# Altium schematic symbol library Power_Protection.SchLib: 144 symbols (part 1 of 2)
Pins are listed as number, name and electrical type; pins without a type are passive.

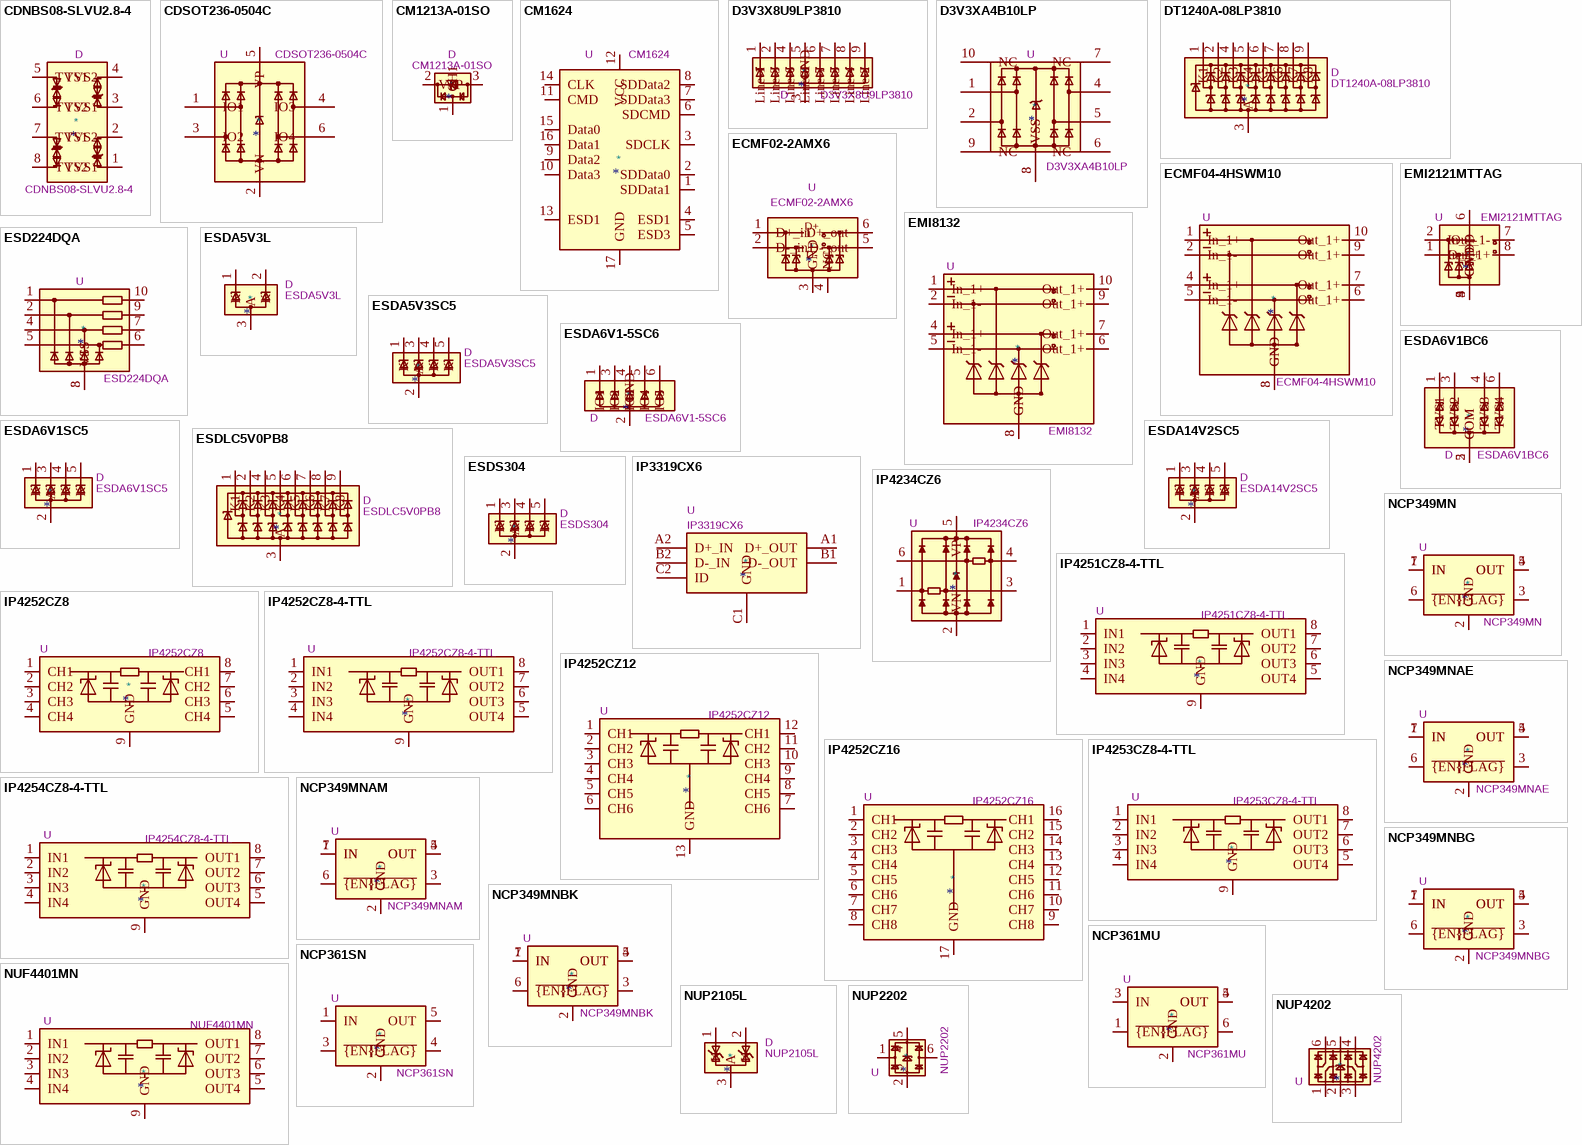
[diagram p0: symbols CDNBS08-SLVU2.8-4 to NUP4202]

## CDNBS08-SLVU2.8-4
designator *  value CDNBS08-SLVU2.8-4  Reference: D
Quad bidirectional transil, Suppressor for ESD protection, 5V Standoff, 4 Channels, SOIC-8; ki_keywords: ESD protection suppression transient; ki_fp_filters: SOIC*3.9x4.9mm*P1.27mm*; Footprint: Package_SO:SOIC-8_3.9x4.9mm_P1.27mm; Datasheet: https://www.bourns.com/pdfs/CDNBS08-SLVU28-4.pdf; Description_: Quad bidirectional transil, Suppressor for ESD protection, 5V Standoff, 4 Channels, SOIC-8
pins: 1 TVS1, 2 TVS2, 3 TVS1, 4 TVS2, 5 TVS1, 6 TVS2, 7 TVS1, 8 TVS2

## CDSOT236-0504C
designator *  value CDSOT236-0504C  Reference: U
Low capacitance ESD diode / steering Diode Array, SOT23-6; ki_keywords: ESD protection diodes; ki_fp_filters: SOT?23*; Footprint: Package_TO_SOT_SMD:SOT-23-6; Datasheet: https://www.bourns.com/docs/product-datasheets/cdsot236-0504c.pdf; Description_: Low capacitance ESD diode / steering Diode Array, SOT23-6
pins: 1 IO1, 2 VN, 3 IO2, 4 IO3, 5 VP, 6 IO4

## CM1213A-01SO
designator *  value CM1213A-01SO  Reference: D
Single Channel ESD Protection Array; ki_keywords: ESD Protection diodes transient suppressor; ki_fp_filters: SOT?23*; Footprint: Package_TO_SOT_SMD:SOT-23; Datasheet: http://www.onsemi.com/pub_link/Collateral/CM1213A-D.PDF; Description_: Single Channel ESD Protection Array
pins: 1 CH1, 2 VP, 3 VN

## CM1624
designator *  value CM1624  Reference: U
MMC interface, EMI filter, TVS, Line termination, UDFN-16; ki_keywords: microsd protection; ki_fp_filters: OnSemi*UDFN*1EP*1.35x3.3mm*P0.4mm*; Footprint: Package_DFN_QFN:OnSemi_UDFN-16-1EP_1.35x3.3mm_P0.4mm_EP0.4x2.8mm; Datasheet: https://www.onsemi.com/pdf/datasheet/cm1624-d.pdf; Description_: MMC interface, EMI filter, TVS, Line termination, UDFN-16
pins: 1 SDData1, 2 SDData0, 3 SDCLK, 4 ESD1, 5 ESD3, 6 SDCMD, 7 SDData3, 8 SDData2, 9 Data2, 10 Data3, 11 CMD, 12 VCC, 13 ESD1, 14 CLK, 15 Data0, 16 Data1, 17 GND

## D3V3X8U9LP3810
designator *  value D3V3X8U9LP3810  Reference: D
3V3 Reverse Working, 8 channel low capacitance 0.45pF, TVS diode array, 5.5-7V Breakdown, U-DFN3810-9; ki_keywords: ESD protection suppression transient; ki_fp_filters: Diodes?UDFN3810?9?TYPE_B*; Footprint: Package_DFN_QFN:Diodes_UDFN3810-9_TYPE_B; Datasheet: https://www.diodes.com/assets/Datasheets/D3V3X8U9LP3810.pdf; Description_: 3V3 Reverse Working, 8 channel low capacitance 0.45pF, TVS diode array, 5.5-7V Breakdown, U-DFN3810-9
pins: 1 Line-1, 2 Line-3, 3 GND, 4 Line-6, 5 Line-8, 6 Line-7, 7 Line-5, 8 Line-4, 9 Line-2

## D3V3XA4B10LP
designator *  value D3V3XA4B10LP  Reference: U
4-Channel Low Capacitance TVS Diode Array, DFN-10; ki_keywords: ESD protection TVS; ki_fp_filters: Diodes*UDFN*1.0x2.5mm*P0.5mm*; Footprint: Package_DFN_QFN:Diodes_UDFN-10_1.0x2.5mm_P0.5mm; Datasheet: https://www.diodes.com/assets/Datasheets/D3V3XA4B10LP.pdf; Description_: 4-Channel Low Capacitance TVS Diode Array, DFN-10
pins: 1, 2, 3 VSS, 4, 5, 6 NC, 7 NC, 8 VSS, 9 NC, 10 NC

## DT1240A-08LP3810
designator *  value DT1240A-08LP3810  Reference: D
Low Capacitance TVS Diode Array, 3.3V Standoff, 8 Channels, UDFN-9; ki_keywords: usb esd protection suppression transient; ki_fp_filters: UDFN*1.0x3.8mm*P0.5mm*; Footprint: Package_DFN_QFN:UDFN-9_1.0x3.8mm_P0.5mm; Datasheet: https://www.diodes.com/assets/Datasheets/DT1240A-08LP3810.pdf; Description_: Low Capacitance TVS Diode Array, 3.3V Standoff, 8 Channels, UDFN-9
pins: 1 K1, 2 K2, 3 A, 4 K3, 5 K4, 6 K5, 7 K6, 8 K7, 9 K8

## ECMF02-2AMX6
designator *  value ECMF02-2AMX6  Reference: U
Single Pair Common Mode Filter with ESD Protection, UQFN-6L; ki_keywords: Common Mode ESD; ki_fp_filters: ST?UQFN*L?1.5x1.7mm*P0.5mm*; Footprint: Package_DFN_QFN:ST_UQFN-6L_1.5x1.7mm_P0.5mm; Datasheet: https://www.st.com/resource/en/datasheet/ecmf02-2amx6.pdf; Description_: Single Pair Common Mode Filter with ESD Protection, UQFN-6L
pins: 1 D+_in, 2 D-_in, 3 GND, 4 NC, 5 D-_out, 6 D+_out
text: D+; D-

## ECMF04-4HSWM10
designator *  value ECMF04-4HSWM10  Reference: U
Dual Pair Common Mode Filter with 8KV/16KV ESD Protection, 3V working voltage, STMicroelectronics, UDFN-10; ki_keywords: Common Mode ESD; ki_fp_filters: *UDFN*1.35x2.6mm*P0.5mm*; Footprint: Package_DFN_QFN:UDFN-10_1.35x2.6mm_P0.5mm; Datasheet: https://www.st.com/content/ccc/resource/technical/document/datasheet/fa/13/38/f2/70/5b/46/46/DM00109760.pdf/files/DM00109760.pdf/jcr:content/translations/en.DM00109760.pdf; Description_: Dual Pair Common Mode Filter with 8KV/16KV ESD Protection, 3V working voltage, STMicroelectronics, UDFN-10
pins: 1 In_1+, 2 In_1-, 3 GND, 4 In_1+, 5 In_1-, 6 Out_1+, 7 Out_1+, 8 GND, 9 Out_1+, 10 Out_1+

## EMI2121MTTAG
designator *  value EMI2121MTTAG  Reference: U
Single Pair Common Mode Filter with ESD Protection, WDFN-8; ki_keywords: Common Mode ESD; ki_fp_filters: WDFN*1EP*2x2.2mm*P0.5mm*; Footprint: Package_DFN_QFN:WDFN-8-1EP_2x2.2mm_P0.5mm_EP0.80x0.54; Datasheet: https://www.onsemi.com/pub/Collateral/EMI2121MT-D.PDF; Description_: Single Pair Common Mode Filter with ESD Protection, WDFN-8
pins: 1 In_1+, 2 In_1-, 3 GND, 4 GND, 5 GND, 6 VDD, 7 Out_1-, 8 Out_1+, 9 GND

## EMI8132
designator *  value EMI8132  Reference: U
On Semi, Dual Pair Common Mode Filter with ESD Protection, 3.3V working voltage, XDFN-10; ki_keywords: Common Mode ESD; ki_fp_filters: *XDFN*1.35x2.2mm*P0.4mm*; Footprint: Package_DFN_QFN:OnSemi_XDFN-10_1.35x2.2mm_P0.4mm; Datasheet: https://www.onsemi.com/pdf/datasheet/emi8132-d.pdf; Description_: On Semi, Dual Pair Common Mode Filter with ESD Protection, 3.3V working voltage, XDFN-10
pins: 1 In_1+, 2 In_1-, 3 GND, 4 In_1+, 5 In_1-, 6 Out_1+, 7 Out_1+, 8 GND, 9 Out_1+, 10 Out_1+

## ESD224DQA
designator *  value ESD224DQA  Reference: U
4-Channel Low Capacitance TVS Diode Array, USON-10; ki_keywords: ESD protection TVS; ki_fp_filters: Diodes*UDFN*1.0x2.5mm*P0.5mm*; Footprint: Package_DFN_QFN:Diodes_UDFN-10_1.0x2.5mm_P0.5mm; Datasheet: https://www.ti.com/lit/ds/symlink/esd224.pdf; Description_: 4-Channel Low Capacitance TVS Diode Array, USON-10
pins: 1, 2, 3 VSS, 4, 5, 6, 7, 8 VSS, 9, 10

## ESDA5V3L
designator *  value ESDA5V3L  Reference: D
TVS Diode Array, 5.5V Standoff, 2 Channels, SOT23; ki_keywords: usb esd protection suppression transient; ki_fp_filters: SOT?23*; Footprint: Package_TO_SOT_SMD:SOT-23-3; Datasheet: https://www.st.com/resource/en/datasheet/esdal.pdf; Description_: TVS Diode Array, 5.5V Standoff, 2 Channels, SOT23
pins: 1 K, 2 K, 3 A

## ESDA5V3SC5
designator *  value ESDA5V3SC5  Reference: D
Quad TVS Diode Array, 5.3V Standoff, 4 Channels, 400W, ±30kV, SOT-23-5; ki_keywords: usb esd protection suppression transient; ki_fp_filters: SOT?23*; Footprint: Package_TO_SOT_SMD:SOT-23-5; Datasheet: https://www.st.com/resource/en/datasheet/esda5v3sc6.pdf; Description_: Quad TVS Diode Array, 5.3V Standoff, 4 Channels, 400W, ±30kV, SOT-23-5
pins: 1 K, 2 A, 3 K, 4 K, 5 K

## ESDA6V1-5SC6
designator *  value ESDA6V1-5SC6  Reference: D
Quintuple bidirectional transil, Suppressor for ESD protection, 6V1 Breakdown, SOT-23-6; ki_keywords: ESD protection suppression transient; ki_fp_filters: SOT?23*; Footprint: Package_TO_SOT_SMD:SOT-23-6; Datasheet: www.st.com/resource/en/datasheet/esda6v1-5sc6.pdf; Description_: Quintuple bidirectional transil, Suppressor for ESD protection, 6V1 Breakdown, SOT-23-6
pins: 1 IO1, 2 GND, 3 IO2, 4 IO3, 5 IO4, 6 IO5

## ESDA6V1BC6
designator *  value ESDA6V1BC6  Reference: D
Quad bidirectional transil, Suppressor for ESD protection, 5V Standoff, 4 Channels, SOT-23-6; ki_keywords: ESD protection suppression transient; ki_fp_filters: SOT?23*; Footprint: Package_TO_SOT_SMD:SOT-23-6; Datasheet: http://www.st.com/content/ccc/resource/technical/document/datasheet/21/07/21/e3/a8/df/42/a2/CD00001906.pdf/files/CD00001906.pdf/jcr:content/translations/en.CD00001906.pdf; Description_: Quad bidirectional transil, Suppressor for ESD protection, 5V Standoff, 4 Channels, SOT-23-6
pins: 1 TVS1, 2 COM, 3 TVS2, 4 TVS3, 5 COM, 6 TVS4

## ESDA6V1SC5
designator *  value ESDA6V1SC5  Reference: D
Quad TVS Diode Array, 6.1V Standoff, 4 Channels, 400W, ±30kV, SOT-23-5; ki_keywords: usb esd protection suppression transient; ki_fp_filters: SOT?23*; Footprint: Package_TO_SOT_SMD:SOT-23-5; Datasheet: https://www.st.com/resource/en/datasheet/esda5v3sc6.pdf; Description_: Quad TVS Diode Array, 6.1V Standoff, 4 Channels, 400W, ±30kV, SOT-23-5
pins: 1 K, 2 A, 3 K, 4 K, 5 K

## ESDA14V2SC5
designator *  value ESDA14V2SC5  Reference: D
Quad TVS Diode Array, 14.2V Standoff, 4 Channels, 400W, ±30kV, SOT-23-5; ki_keywords: esd protection suppression transient; ki_fp_filters: SOT?23*; Footprint: Package_TO_SOT_SMD:SOT-23-5; Datasheet: https://www.st.com/resource/en/datasheet/esda5v3sc6.pdf; Description_: Quad TVS Diode Array, 14.2V Standoff, 4 Channels, 400W, ±30kV, SOT-23-5
pins: 1 K, 2 A, 3 K, 4 K, 5 K

## ESDLC5V0PB8
designator *  value ESDLC5V0PB8  Reference: D
TVS Diode Array, 5.0V Standoff, 8 Channels, UDFN-9; ki_keywords: usb esd protection suppression transient; ki_fp_filters: UDFN*1.0x3.8mm*P0.5mm*; Footprint: Package_DFN_QFN:UDFN-9_1.0x3.8mm_P0.5mm; Datasheet: https://www.mccsemi.com/pdf/Products/ESDLC5V0PB8(DFN3810-9)-A.pdf; Description_: TVS Diode Array, 5.0V Standoff, 8 Channels, UDFN-9
pins: 1 K1, 2 K2, 3 A, 4 K3, 5 K4, 6 K5, 7 K6, 8 K7, 9 K8

## ESDS304
designator *  value ESDS304  Reference: D
4-channel 1Gbps TVS Diode Array, 2.3pF, 4.5V breakdown, 30kV contact & air gap, SOT-23-5; ki_keywords: usb ethernet esd protection suppression transient transient-voltage low-capacitance texas; ki_fp_filters: SOT?23*; Footprint: Package_TO_SOT_SMD:SOT-23-5; Datasheet: https://www.ti.com/lit/ds/symlink/esds304.pdf; Description_: 4-channel 1Gbps TVS Diode Array, 2.3pF, 4.5V breakdown, 30kV contact & air gap, SOT-23-5
pins: 1 K, 2 A, 3 K, 4 K, 5 K

## IP3319CX6
designator *  value IP3319CX6  Reference: U
Single channel common mode filter with integrated ESD protection network; ki_keywords: common mode filter ESD protection; ki_fp_filters: WLCSP*1.4x1.0mm*P0.4mm*; Footprint: Package_CSP:WLCSP-6_1.4x1.0mm_P0.4mm; Datasheet: https://assets.nexperia.com/documents/data-sheet/IP3319CX6.pdf; Description_: Single channel common mode filter with integrated ESD protection network
pins: A1 D+_OUT, A2 D+_IN, B1 D-_OUT, B2 D-_IN, C1 GND, C2 ID

## IP4234CZ6
designator *  value IP4234CZ6  Reference: U
ESD Protection, 2 channel, USB 2.0 to IEC 61000-4-2 level 4, 5.5V, SOT457 (SC-74-6); ki_keywords: USB ESD protection; ki_fp_filters: SC?74?6*P0.95mm*; Footprint: Package_TO_SOT_SMD:SC-74-6_1.55x2.9mm_P0.95mm; Datasheet: https://assets.nexperia.com/documents/data-sheet/IP4234CZ6.pdf; Description_: ESD Protection, 2 channel, USB 2.0 to IEC 61000-4-2 level 4, 5.5V, SOT457 (SC-74-6)
pins: 1, 2 VN, 3, 4, 5 VP, 6

## IP4251CZ8-4-TTL
designator *  value IP4251CZ8-4-TTL  Reference: U
4 channel EMI filters with integrated ESD protection, 100ohm series resistance, 5pF on each side, DFN-8; ki_keywords: EMI ESD protection; ki_fp_filters: *HUSON*1EP*1.35x1.7mm*P0.4mm*; Footprint: Package_SON:Nexperia_HUSON-8_USON-8-1EP_1.35x1.7mm_P0.4mm_EP0.4x1.2mm; Datasheet: https://assets.nexperia.com/documents/data-sheet/IP4251_52_53_54-TTL.pdf; Description_: 4 channel EMI filters with integrated ESD protection, 100ohm series resistance, 5pF on each side, DFN-8
pins: 1 IN1, 2 IN2, 3 IN3, 4 IN4, 5 OUT4, 6 OUT3, 7 OUT2, 8 OUT1, 9 GND

## IP4252CZ8
designator *  value IP4252CZ8  Reference: U
4 channel EMI filters with integrated ESD protection, 12 pF, 40 Ohm; ki_keywords: EMI ESD protection; ki_fp_filters: *HUSON*1.35x1.7*EP0.4x1.2*; Footprint: Package_SON:Nexperia_HUSON-8_USON-8-1EP_1.35x1.7mm_P0.4mm_EP0.4x1.2mm; Datasheet: https://assets.nexperia.com/documents/data-sheet/IP4251_52_53_54-TTL.pdf; Description_: 4 channel EMI filters with integrated ESD protection, 12 pF, 40 Ohm
pins: 1 CH1, 2 CH2, 3 CH3, 4 CH4, 5 CH4, 6 CH3, 7 CH2, 8 CH1, 9 GND

## IP4252CZ8-4-TTL
designator *  value IP4252CZ8-4-TTL  Reference: U
4 channel EMI filters with integrated ESD protection, 40ohm series resistance, 6pF on each side, DFN-8; ki_keywords: EMI ESD protection; ki_fp_filters: *HUSON*1EP*1.35x1.7mm*P0.4mm*; Footprint: Package_SON:Nexperia_HUSON-8_USON-8-1EP_1.35x1.7mm_P0.4mm_EP0.4x1.2mm; Datasheet: https://assets.nexperia.com/documents/data-sheet/IP4251_52_53_54-TTL.pdf; Description_: 4 channel EMI filters with integrated ESD protection, 40ohm series resistance, 6pF on each side, DFN-8
pins: 1 IN1, 2 IN2, 3 IN3, 4 IN4, 5 OUT4, 6 OUT3, 7 OUT2, 8 OUT1, 9 GND

## IP4252CZ12
designator *  value IP4252CZ12  Reference: U
6 channel EMI filters with integrated ESD protection, 12 pF, 40 Ohm; ki_keywords: EMI ESD protection; ki_fp_filters: *HUSON*1.35x2.5*EP0.4x2*; Footprint: Package_SON:Nexperia_HUSON-12_USON-12-1EP_1.35x2.5mm_P0.4mm_EP0.4x2mm; Datasheet: https://assets.nexperia.com/documents/data-sheet/IP4251_52_53_54-TTL.pdf; Description_: 6 channel EMI filters with integrated ESD protection, 12 pF, 40 Ohm
pins: 1 CH1, 2 CH2, 3 CH3, 4 CH4, 5 CH5, 6 CH6, 7 CH6, 8 CH5, 9 CH4, 10 CH3, 11 CH2, 12 CH1, 13 GND

## IP4252CZ16
designator *  value IP4252CZ16  Reference: U
8 channel EMI filters with integrated ESD protection,  12 pF, 40 Ohm; ki_keywords: EMI ESD protection; ki_fp_filters: *HUSON*1.35x3.3*EP0.4x2.8*; Footprint: Package_SON:Nexperia_HUSON-16_USON-16-1EP_1.35x3.3mm_P0.4mm_EP0.4x2.8mm; Datasheet: https://assets.nexperia.com/documents/data-sheet/IP4251_52_53_54-TTL.pdf; Description_: 8 channel EMI filters with integrated ESD protection,  12 pF, 40 Ohm
pins: 1 CH1, 2 CH2, 3 CH3, 4 CH4, 5 CH5, 6 CH6, 7 CH7, 8 CH8, 9 CH8, 10 CH7, 11 CH6, 12 CH5, 13 CH4, 14 CH3, 15 CH2, 16 CH1, 17 GND

## IP4253CZ8-4-TTL
designator *  value IP4253CZ8-4-TTL  Reference: U
4 channel EMI filters with integrated ESD protection, 200ohm series resistance, 15pF on each side, DFN-8; ki_keywords: EMI ESD protection; ki_fp_filters: *HUSON*1EP*1.35x1.7mm*P0.4mm*; Footprint: Package_SON:Nexperia_HUSON-8_USON-8-1EP_1.35x1.7mm_P0.4mm_EP0.4x1.2mm; Datasheet: https://assets.nexperia.com/documents/data-sheet/IP4251_52_53_54-TTL.pdf; Description_: 4 channel EMI filters with integrated ESD protection, 200ohm series resistance, 15pF on each side, DFN-8
pins: 1 IN1, 2 IN2, 3 IN3, 4 IN4, 5 OUT4, 6 OUT3, 7 OUT2, 8 OUT1, 9 GND

## IP4254CZ8-4-TTL
designator *  value IP4254CZ8-4-TTL  Reference: U
4 channel EMI filters with integrated ESD protection, 100ohm series resistance, 15pF on each side, DFN-8; ki_keywords: EMI ESD protection; ki_fp_filters: *HUSON*1EP*1.35x1.7mm*P0.4mm*; Footprint: Package_SON:Nexperia_HUSON-8_USON-8-1EP_1.35x1.7mm_P0.4mm_EP0.4x1.2mm; Datasheet: https://assets.nexperia.com/documents/data-sheet/IP4251_52_53_54-TTL.pdf; Description_: 4 channel EMI filters with integrated ESD protection, 100ohm series resistance, 15pF on each side, DFN-8
pins: 1 IN1, 2 IN2, 3 IN3, 4 IN4, 5 OUT4, 6 OUT3, 7 OUT2, 8 OUT1, 9 GND

## NCP349MN
designator *  value NCP349MN  Reference: U
28V Positive Overvoltage Protection Controller, DFN-6; ki_fp_filters: DFN*1EP*2x1.6mm*P0.5mm*; Footprint: Package_DFN_QFN:DFN-6-1EP_2x1.6mm_P0.5mm_EP1.15x1.3mm; Datasheet: https://www.onsemi.com/pdf/datasheet/ncp349-d.pdf; Description_: 28V Positive Overvoltage Protection Controller, DFN-6; ki_keywords: overvoltage protection
pins: 1 IN, 2 GND, 3 ~{{FLAG}}, 4 OUT, 5 OUT, 6 ~{{EN}}, 7 IN

## NCP349MNAE
designator *  value NCP349MNAE  Reference: U
28V Positive Overvoltage Protection Controller, DFN-6; ki_fp_filters: DFN*1EP*2x1.6mm*P0.5mm*; Footprint: Package_DFN_QFN:DFN-6-1EP_2x1.6mm_P0.5mm_EP1.15x1.3mm; Datasheet: https://www.onsemi.com/pdf/datasheet/ncp349-d.pdf; Description_: 28V Positive Overvoltage Protection Controller, DFN-6; ki_keywords: overvoltage protection
pins: 1 IN, 2 GND, 3 ~{{FLAG}}, 4 OUT, 5 OUT, 6 ~{{EN}}, 7 IN

## NCP349MNAM
designator *  value NCP349MNAM  Reference: U
28V Positive Overvoltage Protection Controller, DFN-6; ki_fp_filters: DFN*1EP*2x1.6mm*P0.5mm*; Footprint: Package_DFN_QFN:DFN-6-1EP_2x1.6mm_P0.5mm_EP1.15x1.3mm; Datasheet: https://www.onsemi.com/pdf/datasheet/ncp349-d.pdf; Description_: 28V Positive Overvoltage Protection Controller, DFN-6; ki_keywords: overvoltage protection
pins: 1 IN, 2 GND, 3 ~{{FLAG}}, 4 OUT, 5 OUT, 6 ~{{EN}}, 7 IN

## NCP349MNBG
designator *  value NCP349MNBG  Reference: U
28V Positive Overvoltage Protection Controller, DFN-6; ki_fp_filters: DFN*1EP*2x1.6mm*P0.5mm*; Footprint: Package_DFN_QFN:DFN-6-1EP_2x1.6mm_P0.5mm_EP1.15x1.3mm; Datasheet: https://www.onsemi.com/pdf/datasheet/ncp349-d.pdf; Description_: 28V Positive Overvoltage Protection Controller, DFN-6; ki_keywords: overvoltage protection
pins: 1 IN, 2 GND, 3 ~{{FLAG}}, 4 OUT, 5 OUT, 6 ~{{EN}}, 7 IN

## NCP349MNBK
designator *  value NCP349MNBK  Reference: U
28V Positive Overvoltage Protection Controller, DFN-6; ki_fp_filters: DFN*1EP*2x1.6mm*P0.5mm*; Footprint: Package_DFN_QFN:DFN-6-1EP_2x1.6mm_P0.5mm_EP1.15x1.3mm; Datasheet: https://www.onsemi.com/pdf/datasheet/ncp349-d.pdf; Description_: 28V Positive Overvoltage Protection Controller, DFN-6; ki_keywords: overvoltage protection
pins: 1 IN, 2 GND, 3 ~{{FLAG}}, 4 OUT, 5 OUT, 6 ~{{EN}}, 7 IN

## NCP361MU
designator *  value NCP361MU  Reference: U
USB Positive Overvoltage Protection Controller with Internal PMOS FET and Overcurrent Protection, DFN-6; ki_keywords: overvoltage protection USB; ki_fp_filters: DFN*1EP*2x2mm*P0.65mm*; Footprint: Package_DFN_QFN:DFN-6-1EP_2x2mm_P0.65mm_EP1x1.6mm; Datasheet: https://www.onsemi.com/pdf/datasheet/ncp361-d.pdf; Description_: USB Positive Overvoltage Protection Controller with Internal PMOS FET and Overcurrent Protection, DFN-6
pins: 1 ~{{EN}}, 2 GND, 3 IN, 4 OUT, 5 OUT, 6 ~{{FLAG}}

## NCP361SN
designator *  value NCP361SN  Reference: U
USB Positive Overvoltage Protection Controller with Internal PMOS FET and Overcurrent Protection, TSOP-5; ki_keywords: overvoltage protection USB; ki_fp_filters: TSOP*1.65x3.05*P0.95*; Footprint: Package_SO:TSOP-5_1.65x3.05mm_P0.95mm; Datasheet: https://www.onsemi.com/pdf/datasheet/ncp361-d.pdf; Description_: USB Positive Overvoltage Protection Controller with Internal PMOS FET and Overcurrent Protection, TSOP-5
pins: 1 IN, 2 GND, 3 ~{{EN}}, 4 ~{{FLAG}}, 5 OUT

## NUF4401MN
designator *  value NUF4401MN  Reference: U
4 channel EMI filters with integrated ESD protection, DFN-8; ki_keywords: EMI ESD protection; ki_fp_filters: DFN*1EP*2x2mm*P0.5mm*; Footprint: Package_DFN_QFN:DFN-8-1EP_2x2mm_P0.5mm_EP0.6x1.2mm; Datasheet: https://www.onsemi.com/pub/Collateral/NUF4401MN-D.PDF; Description_: 4 channel EMI filters with integrated ESD protection, DFN-8
pins: 1 IN1, 2 IN2, 3 IN3, 4 IN4, 5 OUT4, 6 OUT3, 7 OUT2, 8 OUT1, 9 GND

## NUP2105L
designator *  value NUP2105L  Reference: D
Dual Line CAN Bus Protector, 24Vrwm; ki_keywords: can esd protection suppression transient; ki_fp_filters: SOT?23*; Footprint: Package_TO_SOT_SMD:SOT-23; Datasheet: https://www.onsemi.com/pub_link/Collateral/NUP2105L-D.PDF; Description_: Dual Line CAN Bus Protector, 24Vrwm
pins: 1 K, 2 K, 3 A

## NUP2202
designator *  value NUP2202  Reference: U
Transient voltage suppressor designed to protect high speed data lines from ESD, EFT, and lightning; ki_keywords: ESD Protection diodes  transient suppressor; ki_fp_filters: SOT?363*; Footprint: Package_TO_SOT_SMD:SOT-363_SC-70-6; Datasheet: https://www.onsemi.com/pdf/datasheet/nup2202w1-d.pdf; Description_: Transient voltage suppressor designed to protect high speed data lines from ESD, EFT, and lightning
pins: 1, 2, 3, 4, 5, 6

## NUP4202
designator *  value NUP4202  Reference: U
Transient voltage suppressor designed to protect high speed data lines from ESD, EFT, and lightning; ki_keywords: ESD Protection diodes  transient suppressor; ki_fp_filters: SOT?363*; Footprint: Package_TO_SOT_SMD:SOT-363_SC-70-6; Datasheet: http://www.onsemi.com/pub_link/Collateral/NUP4202W1-D.PDF; Description_: Transient voltage suppressor designed to protect high speed data lines from ESD, EFT, and lightning
pins: 1, 2, 3, 4, 5, 6

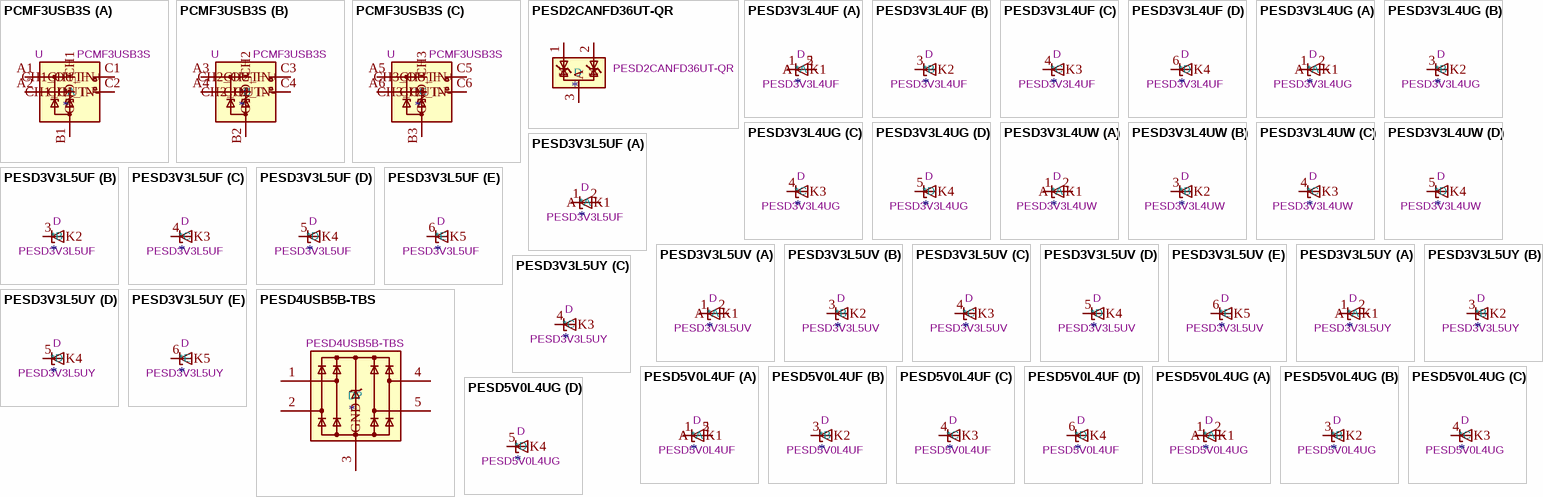
[diagram p1: symbols PCMF3USB3S to PESD5V0L4UG]

## PCMF3USB3S
designator *  value PCMF3USB3S  Reference: U
Common-mode EMI filter for differential channels with integrated ESD protection; ki_keywords: Common Mode ESD; ki_fp_filters: Nexperia*WLCSP*2.37x1.17mm*Layout6x3*P0.4mmP0.8mm*; Footprint: Package_CSP:Nexperia_WLCSP-15_2.37x1.17mm_Layout6x3_P0.4mmP0.8mm; Datasheet: https://assets.nexperia.com/documents/data-sheet/PCMFXUSB3S_SER.pdf; Description_: Common-mode EMI filter for differential channels with integrated ESD protection
part A pins: A1 CH1_IN+, A2 CH1_IN-, B1 GND_CH1, C1 CH1_OUT+, C2 CH1_OUT-
part B pins: A3 CH2_IN+, A4 CH2_IN-, B2 GND_CH2, C3 CH2_OUT+, C4 CH2_OUT-
part C pins: A5 CH3_IN+, A6 CH3_IN-, B3 GND_CH3, C5 CH3_OUT+, C6 CH3_OUT-

## PESD2CANFD36UT-QR
designator D  value PESD2CANFD36UT-QR
ESD protection for in-vehicle networks; ki_keywords: can esd protection suppression transient; ki_fp_filters: SOT?23*; Reference: D; Footprint: Package_TO_SOT_SMD:SOT-23; Datasheet: https://www.onsemi.com/pub_link/Collateral/NUP2105L-D.PDF; Description_: ESD protection for in-vehicle networks
pins: 1 K, 2 K, 3 A

## PESD3V3L4UF
designator *  value PESD3V3L4UF  Reference: D
Low capacitance unidirectional quadruple ESD protection diode array, 3.3V, Common Anode, SOT-886; ki_fp_filters: SOT?886*; Footprint: Package_TO_SOT_SMD:SOT-886; Datasheet: https://assets.nexperia.com/documents/data-sheet/PESDXL4UF_G_W.pdf; Description_: Low capacitance unidirectional quadruple ESD protection diode array, 3.3V, Common Anode, SOT-886; ki_keywords: diode
part A pins: 1 K1, 2 A, 5 A
part B pins: 3 K2
part C pins: 4 K3
part D pins: 6 K4

## PESD3V3L4UG
designator *  value PESD3V3L4UG  Reference: D
Low capacitance unidirectional quadruple ESD protection diode array, 3.3V, Common Anode, SOT-353; ki_fp_filters: SOT?353*; Footprint: Package_TO_SOT_SMD:SOT-353_SC-70-5; Datasheet: https://assets.nexperia.com/documents/data-sheet/PESDXL4UF_G_W.pdf; Description_: Low capacitance unidirectional quadruple ESD protection diode array, 3.3V, Common Anode, SOT-353; ki_keywords: diode
part A pins: 1 K1, 2 A
part B pins: 3 K2
part C pins: 4 K3
part D pins: 5 K4

## PESD3V3L4UW
designator *  value PESD3V3L4UW  Reference: D
Low capacitance unidirectional quadruple ESD protection diode array, 3.3V, Common Anode, SOT-665; ki_fp_filters: SOT?665*; Footprint: Package_TO_SOT_SMD:SOT-665; Datasheet: https://assets.nexperia.com/documents/data-sheet/PESDXL4UF_G_W.pdf; Description_: Low capacitance unidirectional quadruple ESD protection diode array, 3.3V, Common Anode, SOT-665; ki_keywords: diode
part A pins: 1 K1, 2 A
part B pins: 3 K2
part C pins: 4 K3
part D pins: 5 K4

## PESD3V3L5UF
designator *  value PESD3V3L5UF  Reference: D
Low capacitance unidirectional fivefold ESD protection diode array, 3.3V, Common Anode, SOT-886; ki_fp_filters: SOT?886*; Footprint: Package_TO_SOT_SMD:SOT-886; Datasheet: https://assets.nexperia.com/documents/data-sheet/PESDXL5UF_V_Y.pdf; Description_: Low capacitance unidirectional fivefold ESD protection diode array, 3.3V, Common Anode, SOT-886; ki_keywords: diode
part A pins: 1 K1, 2 A
part B pins: 3 K2
part C pins: 4 K3
part D pins: 5 K4
part E pins: 6 K5

## PESD3V3L5UV
designator *  value PESD3V3L5UV  Reference: D
Low capacitance unidirectional fivefold ESD protection diode array, 3.3V, Common Anode, SOT-666; ki_fp_filters: SOT?666*; Footprint: Package_TO_SOT_SMD:SOT-666; Datasheet: https://assets.nexperia.com/documents/data-sheet/PESDXL5UF_V_Y.pdf; Description_: Low capacitance unidirectional fivefold ESD protection diode array, 3.3V, Common Anode, SOT-666; ki_keywords: diode
part A pins: 1 K1, 2 A
part B pins: 3 K2
part C pins: 4 K3
part D pins: 5 K4
part E pins: 6 K5

## PESD3V3L5UY
designator *  value PESD3V3L5UY  Reference: D
Low capacitance unidirectional fivefold ESD protection diode array, 3.3V, Common Anode, SOT-363; ki_fp_filters: SOT?363*; Footprint: Package_TO_SOT_SMD:SOT-363_SC-70-6; Datasheet: https://assets.nexperia.com/documents/data-sheet/PESDXL5UF_V_Y.pdf; Description_: Low capacitance unidirectional fivefold ESD protection diode array, 3.3V, Common Anode, SOT-363; ki_keywords: diode
part A pins: 1 K1, 2 A
part B pins: 3 K2
part C pins: 4 K3
part D pins: 5 K4
part E pins: 6 K5

## PESD4USB5B-TBS
designator D?  value PESD4USB5B-TBS
This bidirectional ESD protection device is designed to protect high-speed interfaces such as SuperSpeed USB 3.2  HDMI, DisplayPor; Manufacturer: Nexperia; Manufacturer Lifecycle Status: RELEASED FOR SUPPLY; Manufacturer Part Number: PESD4USB5B-TBSX; ki_keywords: ESD protection USB 3.0; Reference: D; Datasheet: https://assets.nexperia.com/documents/data-sheet/PESD4USB5B-TBS.pdf; Description_: This bidirectional ESD protection device is designed to protect high-speed interfaces such as SuperSpeed USB 3.2  HDMI, DisplayPor; Category: TVS Diodes; Lifecycle Status: Production; RoHS: Compliant; Supplier 1: Mouser; Supplier Part Number 1: 771-PESD4USB5B-TBSX; Supplier Packaging 1: Tape & Reel; Supplier Unit Price 1: $1.18; Supplier Location 1: US; DNP: *
footprint DFN-10_2.5x1.0mm_P0.5mm_PESD4USB5B-TBS
pins: 1 D1+, 2 D1-, 3 GND, 4 D2+, 5 D2-

## PESD5V0L4UF
designator *  value PESD5V0L4UF  Reference: D
Low capacitance unidirectional quadruple ESD protection diode array, 5.0V, Common Anode, SOT-886; ki_fp_filters: SOT?886*; Footprint: Package_TO_SOT_SMD:SOT-886; Datasheet: https://assets.nexperia.com/documents/data-sheet/PESDXL4UF_G_W.pdf; Description_: Low capacitance unidirectional quadruple ESD protection diode array, 5.0V, Common Anode, SOT-886; ki_keywords: diode
part A pins: 1 K1, 2 A, 5 A
part B pins: 3 K2
part C pins: 4 K3
part D pins: 6 K4

## PESD5V0L4UG
designator *  value PESD5V0L4UG  Reference: D
Low capacitance unidirectional quadruple ESD protection diode array, 5.0V, Common Anode, SOT-353; ki_fp_filters: SOT?353*; Footprint: Package_TO_SOT_SMD:SOT-353_SC-70-5; Datasheet: https://assets.nexperia.com/documents/data-sheet/PESDXL4UF_G_W.pdf; Description_: Low capacitance unidirectional quadruple ESD protection diode array, 5.0V, Common Anode, SOT-353; ki_keywords: diode
part A pins: 1 K1, 2 A
part B pins: 3 K2
part C pins: 4 K3
part D pins: 5 K4

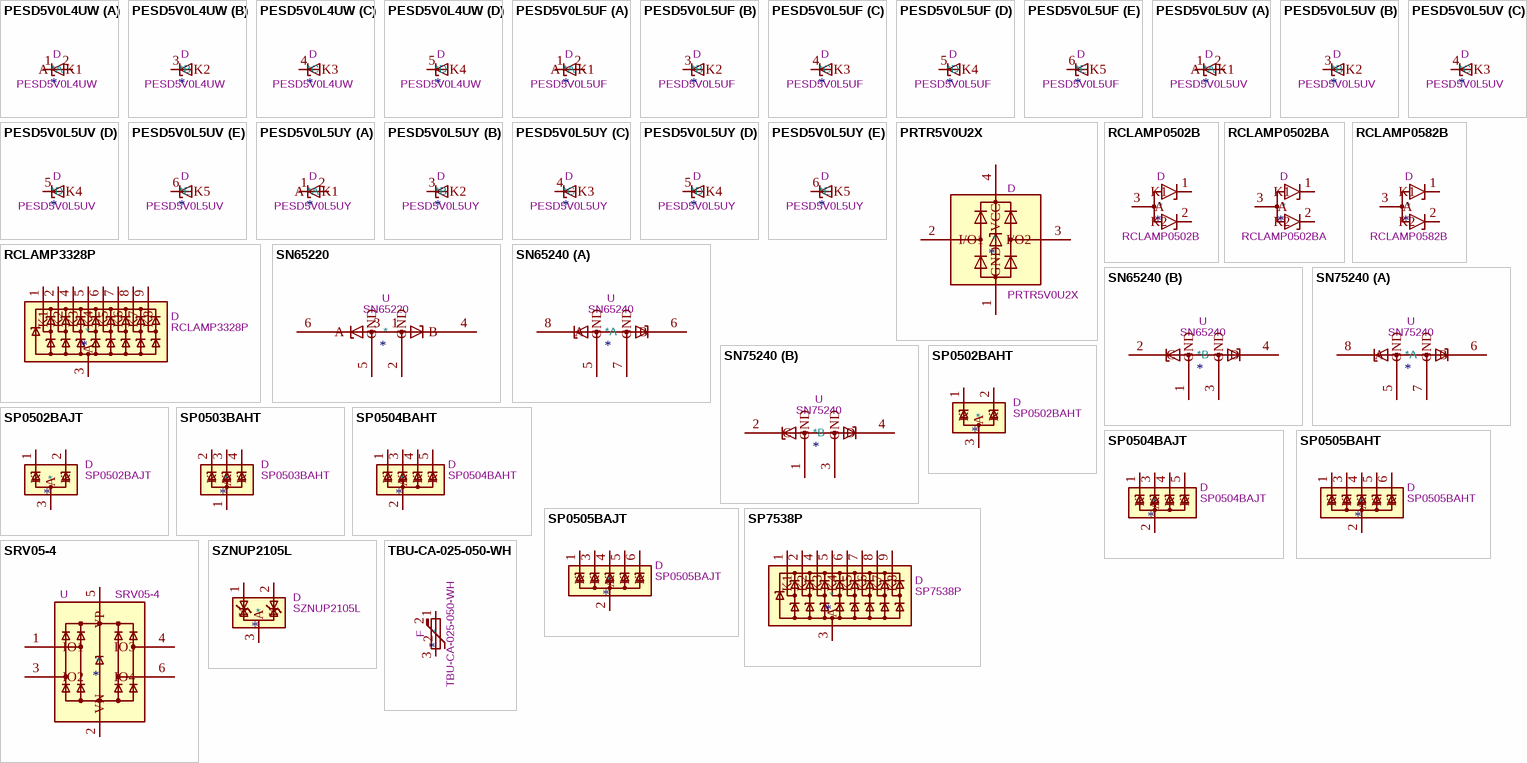
[diagram p2: symbols PESD5V0L4UW to TBU-CA-025-050-WH]

## PESD5V0L4UW
designator *  value PESD5V0L4UW  Reference: D
Low capacitance unidirectional quadruple ESD protection diode array, 5.0V, Common Anode, SOT-665; ki_fp_filters: SOT?665*; Footprint: Package_TO_SOT_SMD:SOT-665; Datasheet: https://assets.nexperia.com/documents/data-sheet/PESDXL4UF_G_W.pdf; Description_: Low capacitance unidirectional quadruple ESD protection diode array, 5.0V, Common Anode, SOT-665; ki_keywords: diode
part A pins: 1 K1, 2 A
part B pins: 3 K2
part C pins: 4 K3
part D pins: 5 K4

## PESD5V0L5UF
designator *  value PESD5V0L5UF  Reference: D
Low capacitance unidirectional fivefold ESD protection diode array, 5.0V, Common Anode, SOT-886; ki_fp_filters: SOT?886*; Footprint: Package_TO_SOT_SMD:SOT-886; Datasheet: https://assets.nexperia.com/documents/data-sheet/PESDXL5UF_V_Y.pdf; Description_: Low capacitance unidirectional fivefold ESD protection diode array, 5.0V, Common Anode, SOT-886; ki_keywords: diode
part A pins: 1 K1, 2 A
part B pins: 3 K2
part C pins: 4 K3
part D pins: 5 K4
part E pins: 6 K5

## PESD5V0L5UV
designator *  value PESD5V0L5UV  Reference: D
Low capacitance unidirectional fivefold ESD protection diode array, 5.0V, Common Anode, SOT-666; ki_fp_filters: SOT?666*; Footprint: Package_TO_SOT_SMD:SOT-666; Datasheet: https://assets.nexperia.com/documents/data-sheet/PESDXL5UF_V_Y.pdf; Description_: Low capacitance unidirectional fivefold ESD protection diode array, 5.0V, Common Anode, SOT-666; ki_keywords: diode
part A pins: 1 K1, 2 A
part B pins: 3 K2
part C pins: 4 K3
part D pins: 5 K4
part E pins: 6 K5

## PESD5V0L5UY
designator *  value PESD5V0L5UY  Reference: D
Low capacitance unidirectional fivefold ESD protection diode array, 5.0V, Common Anode, SOT-363; ki_fp_filters: SOT?363*; Footprint: Package_TO_SOT_SMD:SOT-363_SC-70-6; Datasheet: https://assets.nexperia.com/documents/data-sheet/PESDXL5UF_V_Y.pdf; Description_: Low capacitance unidirectional fivefold ESD protection diode array, 5.0V, Common Anode, SOT-363; ki_keywords: diode
part A pins: 1 K1, 2 A
part B pins: 3 K2
part C pins: 4 K3
part D pins: 5 K4
part E pins: 6 K5

## PRTR5V0U2X
designator *  value PRTR5V0U2X  Reference: D
Ultra low capacitance double rail-to-rail ESD protection diode, SOT-143; ki_fp_filters: SOT?143*; Footprint: Package_TO_SOT_SMD:SOT-143; Datasheet: https://assets.nexperia.com/documents/data-sheet/PRTR5V0U2X.pdf; Description_: Ultra low capacitance double rail-to-rail ESD protection diode, SOT-143; ki_keywords: ESD protection diode
pins: 1 GND, 2 I/O1, 3 I/O2, 4 VCC

## RCLAMP0502B
designator *  value RCLAMP0502B  Reference: D
Low capacitance unidirectional dual ESD protection diode, SC-75; ki_keywords: tvs unidirectional; ki_fp_filters: SOT?416*; Footprint: Package_TO_SOT_SMD:SOT-416; Datasheet: https://www.semtech.com/products/circuit-protection/low-capacitance/rclamp0502b; Description_: Low capacitance unidirectional dual ESD protection diode, SC-75
pins: 1 K1, 2 K2, 3 A

## RCLAMP0502BA
designator *  value RCLAMP0502BA  Reference: D
Low capacitance unidirectional dual ESD protection diode, SC-75; ki_keywords: tvs unidirectional; ki_fp_filters: SOT?416*; Footprint: Package_TO_SOT_SMD:SOT-416; Datasheet: https://www.semtech.com/products/circuit-protection/low-capacitance/rclamp0502ba; Description_: Low capacitance unidirectional dual ESD protection diode, SC-75
pins: 1 K1, 2 K2, 3 A

## RCLAMP0582B
designator *  value RCLAMP0582B  Reference: D
Low capacitance unidirectional dual ESD protection diode, SC-75; ki_keywords: tvs unidirectional; ki_fp_filters: SOT?416*; Footprint: Package_TO_SOT_SMD:SOT-416; Datasheet: https://www.semtech.com/products/circuit-protection/low-capacitance/rclamp0582b; Description_: Low capacitance unidirectional dual ESD protection diode, SC-75
pins: 1 K1, 2 K2, 3 A

## RCLAMP3328P
designator *  value RCLAMP3328P  Reference: D
Low Capacitance TVS Diode Array, 3.3V Standoff, 8 Channels, UDFN-9; ki_keywords: usb esd protection suppression transient; ki_fp_filters: UDFN*1.0x3.8mm*P0.5mm*; Footprint: Package_DFN_QFN:UDFN-9_1.0x3.8mm_P0.5mm; Datasheet: https://media.digikey.com/pdf/Data%20Sheets/Semtech%20PDFs/RCLAMP3328P.pdf; Description_: Low Capacitance TVS Diode Array, 3.3V Standoff, 8 Channels, UDFN-9
pins: 1 K1, 2 K2, 3 A, 4 K3, 5 K4, 6 K5, 7 K6, 8 K7, 9 K8

## SN65220
designator *  value SN65220  Reference: U
USB port transient suppressors; ki_keywords: USB suppressor; ki_fp_filters: SOT?23*; Footprint: Package_TO_SOT_SMD:SOT-23-6; Datasheet: http://www.ti.com/lit/ds/symlink/sn65220.pdf; Description_: USB port transient suppressors
pins: 1, 2 GND, 3, 4 B, 5 GND, 6 A

## SN65240
designator *  value SN65240  Reference: U
USB port transient suppressors; ki_keywords: USB suppressor; ki_fp_filters: DIP*7.62mm* TSSOP*4.4x3mm*0.65mm*; Datasheet: http://www.ti.com/lit/ds/symlink/sn65220.pdf; Description_: USB port transient suppressors
part A pins: 5 GND, 6 B, 7 GND, 8 A
part B pins: 1 GND, 2 C, 3 GND, 4 D

## SN75240
designator *  value SN75240  Reference: U
USB port transient suppressors; ki_keywords: USB suppressor; ki_fp_filters: DIP*7.62mm* TSSOP*4.4x3mm*0.65mm*; Datasheet: http://www.ti.com/lit/ds/symlink/sn65220.pdf; Description_: USB port transient suppressors
part A pins: 5 GND, 6 B, 7 GND, 8 A
part B pins: 1 GND, 2 C, 3 GND, 4 D

## SP0502BAHT
designator *  value SP0502BAHT  Reference: D
TVS Diode Array, 5.5V Standoff, 2 Channels, SOT-23 package; ki_keywords: usb esd protection suppression transient; ki_fp_filters: SOT?23*; Footprint: Package_TO_SOT_SMD:SOT-23; Datasheet: http://www.littelfuse.com/~/media/files/littelfuse/technical%20resources/documents/data%20sheets/sp05xxba.pdf; Description_: TVS Diode Array, 5.5V Standoff, 2 Channels, SOT-23 package
pins: 1 K, 2 K, 3 A

## SP0502BAJT
designator *  value SP0502BAJT  Reference: D
TVS Diode Array, 5.5V Standoff, 2 Channels, SC-70 package; ki_keywords: usb esd protection suppression transient; ki_fp_filters: SOT?323*; Footprint: Package_TO_SOT_SMD:SOT-323_SC-70; Datasheet: http://www.littelfuse.com/~/media/files/littelfuse/technical%20resources/documents/data%20sheets/sp05xxba.pdf; Description_: TVS Diode Array, 5.5V Standoff, 2 Channels, SC-70 package
pins: 1 K, 2 K, 3 A

## SP0503BAHT
designator *  value SP0503BAHT  Reference: D
TVS Diode Array, 5.5V Standoff, 3 Channels, SOT-143 package; ki_keywords: usb esd protection suppression transient; ki_fp_filters: SOT?143*; Footprint: Package_TO_SOT_SMD:SOT-143; Datasheet: http://www.littelfuse.com/~/media/files/littelfuse/technical%20resources/documents/data%20sheets/sp05xxba.pdf; Description_: TVS Diode Array, 5.5V Standoff, 3 Channels, SOT-143 package
pins: 1 A, 2 K, 3 K, 4 K

## SP0504BAHT
designator *  value SP0504BAHT  Reference: D
TVS Diode Array, 5.5V Standoff, 4 Channels, SOT-23-5 package; ki_keywords: usb esd protection suppression transient; ki_fp_filters: SOT?23*; Footprint: Package_TO_SOT_SMD:SOT-23-5; Datasheet: http://www.littelfuse.com/~/media/files/littelfuse/technical%20resources/documents/data%20sheets/sp05xxba.pdf; Description_: TVS Diode Array, 5.5V Standoff, 4 Channels, SOT-23-5 package
pins: 1 K, 2 A, 3 K, 4 K, 5 K

## SP0504BAJT
designator *  value SP0504BAJT  Reference: D
TVS Diode Array, 5.5V Standoff, 4 Channels, SC-70-5 package; ki_keywords: usb esd protection suppression transient; ki_fp_filters: SOT?353*; Footprint: Package_TO_SOT_SMD:SOT-353_SC-70-5; Datasheet: http://www.littelfuse.com/~/media/files/littelfuse/technical%20resources/documents/data%20sheets/sp05xxba.pdf; Description_: TVS Diode Array, 5.5V Standoff, 4 Channels, SC-70-5 package
pins: 1 K, 2 A, 3 K, 4 K, 5 K

## SP0505BAHT
designator *  value SP0505BAHT  Reference: D
TVS Diode Array, 5.5V Standoff, 5 Channels, SOT-23-6 package; ki_keywords: usb esd protection suppression transient; ki_fp_filters: SOT?23*; Footprint: Package_TO_SOT_SMD:SOT-23-6; Datasheet: http://www.littelfuse.com/~/media/files/littelfuse/technical%20resources/documents/data%20sheets/sp05xxba.pdf; Description_: TVS Diode Array, 5.5V Standoff, 5 Channels, SOT-23-6 package
pins: 1 K, 2 A, 3 K, 4 K, 5 K, 6 K

## SP0505BAJT
designator *  value SP0505BAJT  Reference: D
TVS Diode Array, 5.5V Standoff, 5 Channels, SC-70-6 package; ki_keywords: usb esd protection suppression transient; ki_fp_filters: SOT?363*; Footprint: Package_TO_SOT_SMD:SOT-363_SC-70-6; Datasheet: http://www.littelfuse.com/~/media/files/littelfuse/technical%20resources/documents/data%20sheets/sp05xxba.pdf; Description_: TVS Diode Array, 5.5V Standoff, 5 Channels, SC-70-6 package
pins: 1 K, 2 A, 3 K, 4 K, 5 K, 6 K

## SP7538P
designator *  value SP7538P  Reference: D
Low Capacitance TVS Diode Array, 5.0V Standoff, 8 Channels, UDFN-9; ki_keywords: usb esd protection suppression transient; ki_fp_filters: UDFN*1.0x3.8mm*P0.5mm*; Footprint: Package_DFN_QFN:UDFN-9_1.0x3.8mm_P0.5mm; Datasheet: https://www.littelfuse.com/~/media/electronics/datasheets/tvs_diode_arrays/littelfuse_tvs_diode_array_sp7538p_datasheet.pdf.pdf; Description_: Low Capacitance TVS Diode Array, 5.0V Standoff, 8 Channels, UDFN-9
pins: 1 K1, 2 K2, 3 A, 4 K3, 5 K4, 6 K5, 7 K6, 8 K7, 9 K8

## SRV05-4
designator *  value SRV05-4  Reference: U
ESD Protection Diodes with Low Clamping Voltage, SOT-23-6; ki_fp_filters: SOT?23*; Footprint: Package_TO_SOT_SMD:SOT-23-6; Datasheet: http://www.onsemi.com/pub/Collateral/SRV05-4-D.PDF; Description_: ESD Protection Diodes with Low Clamping Voltage, SOT-23-6; ki_keywords: ESD protection diodes
pins: 1 IO1, 2 VN, 3 IO2, 4 IO3, 5 VP, 6 IO4

## SZNUP2105L
designator *  value SZNUP2105L  Reference: D
Dual Line CAN Bus Protector, 24Vrwm, Automotive Grade; ki_keywords: can esd protection suppression transient automotive; ki_fp_filters: SOT?23*; Footprint: Package_TO_SOT_SMD:SOT-23; Datasheet: https://www.onsemi.com/pub_link/Collateral/NUP2105L-D.PDF; Description_: Dual Line CAN Bus Protector, 24Vrwm, Automotive Grade
pins: 1 K, 2 K, 3 A

## TBU-CA-025-050-WH
designator *  value TBU-CA-025-050-WH  Reference: F
low capacitance single bidirectional high-speed protection, 250V 50mA 13.3ohm, https://www.bourns.com/data/global/pdfs/TBU-CA.pdf; ki_keywords: high speed bidirectional protection; ki_fp_filters: *Bourns*TBU?CA*; Footprint: Fuse:Fuse_Bourns_TBU-CA; Datasheet: https://www.bourns.com/data/global/pdfs/TBU-CA.pdf; Description_: low capacitance single bidirectional high-speed protection, 250V 50mA 13.3ohm, https://www.bourns.com/data/global/pdfs/TBU-CA.pdf
pins: 1, 2, 3

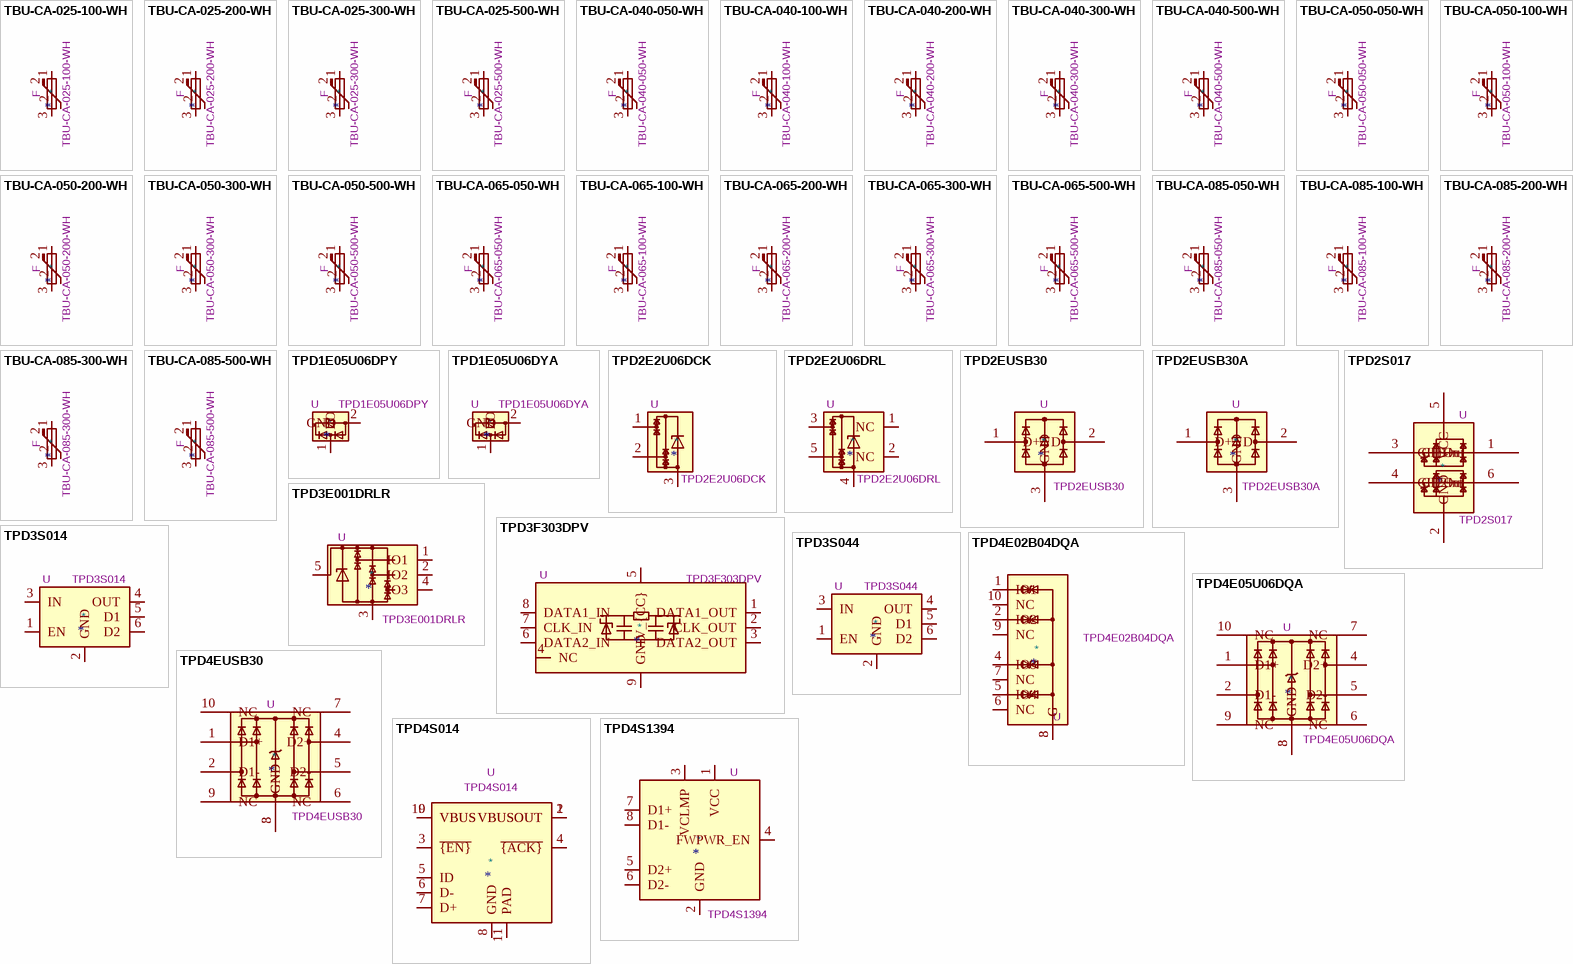
[diagram p3: symbols TBU-CA-025-100-WH to TPD4S1394]

## TBU-CA-025-100-WH
designator *  value TBU-CA-025-100-WH  Reference: F
low capacitance single bidirectional high-speed protection, 250V 100mA 7.1ohm, https://www.bourns.com/data/global/pdfs/TBU-CA.pdf; ki_keywords: high speed bidirectional protection; ki_fp_filters: *Bourns*TBU?CA*; Footprint: Fuse:Fuse_Bourns_TBU-CA; Datasheet: https://www.bourns.com/data/global/pdfs/TBU-CA.pdf; Description_: low capacitance single bidirectional high-speed protection, 250V 100mA 7.1ohm, https://www.bourns.com/data/global/pdfs/TBU-CA.pdf
pins: 1, 2, 3

## TBU-CA-025-200-WH
designator *  value TBU-CA-025-200-WH  Reference: F
low capacitance single bidirectional high-speed protection, 250V 200mA 4.2ohm, https://www.bourns.com/data/global/pdfs/TBU-CA.pdf; ki_keywords: high speed bidirectional protection; ki_fp_filters: *Bourns*TBU?CA*; Footprint: Fuse:Fuse_Bourns_TBU-CA; Datasheet: https://www.bourns.com/data/global/pdfs/TBU-CA.pdf; Description_: low capacitance single bidirectional high-speed protection, 250V 200mA 4.2ohm, https://www.bourns.com/data/global/pdfs/TBU-CA.pdf
pins: 1, 2, 3

## TBU-CA-025-300-WH
designator *  value TBU-CA-025-300-WH  Reference: F
low capacitance single bidirectional high-speed protection, 250V 300mA 3.2ohm, https://www.bourns.com/data/global/pdfs/TBU-CA.pdf; ki_keywords: high speed bidirectional protection; ki_fp_filters: *Bourns*TBU?CA*; Footprint: Fuse:Fuse_Bourns_TBU-CA; Datasheet: https://www.bourns.com/data/global/pdfs/TBU-CA.pdf; Description_: low capacitance single bidirectional high-speed protection, 250V 300mA 3.2ohm, https://www.bourns.com/data/global/pdfs/TBU-CA.pdf
pins: 1, 2, 3

## TBU-CA-025-500-WH
designator *  value TBU-CA-025-500-WH  Reference: F
low capacitance single bidirectional high-speed protection, 250V 500mA 2.6ohm, https://www.bourns.com/data/global/pdfs/TBU-CA.pdf; ki_keywords: high speed bidirectional protection; ki_fp_filters: *Bourns*TBU?CA*; Footprint: Fuse:Fuse_Bourns_TBU-CA; Datasheet: https://www.bourns.com/data/global/pdfs/TBU-CA.pdf; Description_: low capacitance single bidirectional high-speed protection, 250V 500mA 2.6ohm, https://www.bourns.com/data/global/pdfs/TBU-CA.pdf
pins: 1, 2, 3

## TBU-CA-040-050-WH
designator *  value TBU-CA-040-050-WH  Reference: F
low capacitance single bidirectional high-speed protection, 400V 50mA 14.3ohm, https://www.bourns.com/data/global/pdfs/TBU-CA.pdf; ki_keywords: high speed bidirectional protection; ki_fp_filters: *Bourns*TBU?CA*; Footprint: Fuse:Fuse_Bourns_TBU-CA; Datasheet: https://www.bourns.com/data/global/pdfs/TBU-CA.pdf; Description_: low capacitance single bidirectional high-speed protection, 400V 50mA 14.3ohm, https://www.bourns.com/data/global/pdfs/TBU-CA.pdf
pins: 1, 2, 3

## TBU-CA-040-100-WH
designator *  value TBU-CA-040-100-WH  Reference: F
low capacitance single bidirectional high-speed protection, 400V 100mA 8.1ohm, https://www.bourns.com/data/global/pdfs/TBU-CA.pdf; ki_keywords: high speed bidirectional protection; ki_fp_filters: *Bourns*TBU?CA*; Footprint: Fuse:Fuse_Bourns_TBU-CA; Datasheet: https://www.bourns.com/data/global/pdfs/TBU-CA.pdf; Description_: low capacitance single bidirectional high-speed protection, 400V 100mA 8.1ohm, https://www.bourns.com/data/global/pdfs/TBU-CA.pdf
pins: 1, 2, 3

## TBU-CA-040-200-WH
designator *  value TBU-CA-040-200-WH  Reference: F
low capacitance single bidirectional high-speed protection, 400V 200mA 5.2ohm, https://www.bourns.com/data/global/pdfs/TBU-CA.pdf; ki_keywords: high speed bidirectional protection; ki_fp_filters: *Bourns*TBU?CA*; Footprint: Fuse:Fuse_Bourns_TBU-CA; Datasheet: https://www.bourns.com/data/global/pdfs/TBU-CA.pdf; Description_: low capacitance single bidirectional high-speed protection, 400V 200mA 5.2ohm, https://www.bourns.com/data/global/pdfs/TBU-CA.pdf
pins: 1, 2, 3

## TBU-CA-040-300-WH
designator *  value TBU-CA-040-300-WH  Reference: F
low capacitance single bidirectional high-speed protection, 400V 300mA 4.3ohm, https://www.bourns.com/data/global/pdfs/TBU-CA.pdf; ki_keywords: high speed bidirectional protection; ki_fp_filters: *Bourns*TBU?CA*; Footprint: Fuse:Fuse_Bourns_TBU-CA; Datasheet: https://www.bourns.com/data/global/pdfs/TBU-CA.pdf; Description_: low capacitance single bidirectional high-speed protection, 400V 300mA 4.3ohm, https://www.bourns.com/data/global/pdfs/TBU-CA.pdf
pins: 1, 2, 3

## TBU-CA-040-500-WH
designator *  value TBU-CA-040-500-WH  Reference: F
low capacitance single bidirectional high-speed protection, 400V 500mA 3.6ohm, https://www.bourns.com/data/global/pdfs/TBU-CA.pdf; ki_keywords: high speed bidirectional protection; ki_fp_filters: *Bourns*TBU?CA*; Footprint: Fuse:Fuse_Bourns_TBU-CA; Datasheet: https://www.bourns.com/data/global/pdfs/TBU-CA.pdf; Description_: low capacitance single bidirectional high-speed protection, 400V 500mA 3.6ohm, https://www.bourns.com/data/global/pdfs/TBU-CA.pdf
pins: 1, 2, 3

## TBU-CA-050-050-WH
designator *  value TBU-CA-050-050-WH  Reference: F
low capacitance single bidirectional high-speed protection, 500V 50mA 15.7ohm, https://www.bourns.com/data/global/pdfs/TBU-CA.pdf; ki_keywords: high speed bidirectional protection; ki_fp_filters: *Bourns*TBU?CA*; Footprint: Fuse:Fuse_Bourns_TBU-CA; Datasheet: https://www.bourns.com/data/global/pdfs/TBU-CA.pdf; Description_: low capacitance single bidirectional high-speed protection, 500V 50mA 15.7ohm, https://www.bourns.com/data/global/pdfs/TBU-CA.pdf
pins: 1, 2, 3

## TBU-CA-050-100-WH
designator *  value TBU-CA-050-100-WH  Reference: F
low capacitance single bidirectional high-speed protection, 500V 100mA 9.5ohm, https://www.bourns.com/data/global/pdfs/TBU-CA.pdf; ki_keywords: high speed bidirectional protection; ki_fp_filters: *Bourns*TBU?CA*; Footprint: Fuse:Fuse_Bourns_TBU-CA; Datasheet: https://www.bourns.com/data/global/pdfs/TBU-CA.pdf; Description_: low capacitance single bidirectional high-speed protection, 500V 100mA 9.5ohm, https://www.bourns.com/data/global/pdfs/TBU-CA.pdf
pins: 1, 2, 3

## TBU-CA-050-200-WH
designator *  value TBU-CA-050-200-WH  Reference: F
low capacitance single bidirectional high-speed protection, 500V 200mA 6.6ohm, https://www.bourns.com/data/global/pdfs/TBU-CA.pdf; ki_keywords: high speed bidirectional protection; ki_fp_filters: *Bourns*TBU?CA*; Footprint: Fuse:Fuse_Bourns_TBU-CA; Datasheet: https://www.bourns.com/data/global/pdfs/TBU-CA.pdf; Description_: low capacitance single bidirectional high-speed protection, 500V 200mA 6.6ohm, https://www.bourns.com/data/global/pdfs/TBU-CA.pdf
pins: 1, 2, 3

## TBU-CA-050-300-WH
designator *  value TBU-CA-050-300-WH  Reference: F
low capacitance single bidirectional high-speed protection, 500V 300mA 5.6ohm, https://www.bourns.com/data/global/pdfs/TBU-CA.pdf; ki_keywords: high speed bidirectional protection; ki_fp_filters: *Bourns*TBU?CA*; Footprint: Fuse:Fuse_Bourns_TBU-CA; Datasheet: https://www.bourns.com/data/global/pdfs/TBU-CA.pdf; Description_: low capacitance single bidirectional high-speed protection, 500V 300mA 5.6ohm, https://www.bourns.com/data/global/pdfs/TBU-CA.pdf
pins: 1, 2, 3

## TBU-CA-050-500-WH
designator *  value TBU-CA-050-500-WH  Reference: F
low capacitance single bidirectional high-speed protection, 500V 500mA 5.0ohm, https://www.bourns.com/data/global/pdfs/TBU-CA.pdf; ki_keywords: high speed bidirectional protection; ki_fp_filters: *Bourns*TBU?CA*; Footprint: Fuse:Fuse_Bourns_TBU-CA; Datasheet: https://www.bourns.com/data/global/pdfs/TBU-CA.pdf; Description_: low capacitance single bidirectional high-speed protection, 500V 500mA 5.0ohm, https://www.bourns.com/data/global/pdfs/TBU-CA.pdf
pins: 1, 2, 3

## TBU-CA-065-050-WH
designator *  value TBU-CA-065-050-WH  Reference: F
low capacitance single bidirectional high-speed protection, 650V 50mA 17.7ohm, https://www.bourns.com/data/global/pdfs/TBU-CA.pdf; ki_keywords: high speed bidirectional protection; ki_fp_filters: *Bourns*TBU?CA*; Footprint: Fuse:Fuse_Bourns_TBU-CA; Datasheet: https://www.bourns.com/data/global/pdfs/TBU-CA.pdf; Description_: low capacitance single bidirectional high-speed protection, 650V 50mA 17.7ohm, https://www.bourns.com/data/global/pdfs/TBU-CA.pdf
pins: 1, 2, 3

## TBU-CA-065-100-WH
designator *  value TBU-CA-065-100-WH  Reference: F
low capacitance single bidirectional high-speed protection, 650V 100mA 11.5ohm, https://www.bourns.com/data/global/pdfs/TBU-CA.pdf; ki_keywords: high speed bidirectional protection; ki_fp_filters: *Bourns*TBU?CA*; Footprint: Fuse:Fuse_Bourns_TBU-CA; Datasheet: https://www.bourns.com/data/global/pdfs/TBU-CA.pdf; Description_: low capacitance single bidirectional high-speed protection, 650V 100mA 11.5ohm, https://www.bourns.com/data/global/pdfs/TBU-CA.pdf
pins: 1, 2, 3

## TBU-CA-065-200-WH
designator *  value TBU-CA-065-200-WH  Reference: F
low capacitance single bidirectional high-speed protection, 650V 200mA 8.6ohm, https://www.bourns.com/data/global/pdfs/TBU-CA.pdf; ki_keywords: high speed bidirectional protection; ki_fp_filters: *Bourns*TBU?CA*; Footprint: Fuse:Fuse_Bourns_TBU-CA; Datasheet: https://www.bourns.com/data/global/pdfs/TBU-CA.pdf; Description_: low capacitance single bidirectional high-speed protection, 650V 200mA 8.6ohm, https://www.bourns.com/data/global/pdfs/TBU-CA.pdf
pins: 1, 2, 3

## TBU-CA-065-300-WH
designator *  value TBU-CA-065-300-WH  Reference: F
low capacitance single bidirectional high-speed protection, 650V 300mA 7.6ohm, https://www.bourns.com/data/global/pdfs/TBU-CA.pdf; ki_keywords: high speed bidirectional protection; ki_fp_filters: *Bourns*TBU?CA*; Footprint: Fuse:Fuse_Bourns_TBU-CA; Datasheet: https://www.bourns.com/data/global/pdfs/TBU-CA.pdf; Description_: low capacitance single bidirectional high-speed protection, 650V 300mA 7.6ohm, https://www.bourns.com/data/global/pdfs/TBU-CA.pdf
pins: 1, 2, 3

## TBU-CA-065-500-WH
designator *  value TBU-CA-065-500-WH  Reference: F
low capacitance single bidirectional high-speed protection, 650V 500mA 7.0ohm, https://www.bourns.com/data/global/pdfs/TBU-CA.pdf; ki_keywords: high speed bidirectional protection; ki_fp_filters: *Bourns*TBU?CA*; Footprint: Fuse:Fuse_Bourns_TBU-CA; Datasheet: https://www.bourns.com/data/global/pdfs/TBU-CA.pdf; Description_: low capacitance single bidirectional high-speed protection, 650V 500mA 7.0ohm, https://www.bourns.com/data/global/pdfs/TBU-CA.pdf
pins: 1, 2, 3

## TBU-CA-085-050-WH
designator *  value TBU-CA-085-050-WH  Reference: F
low capacitance single bidirectional high-speed protection, 850V 50mA 21.4ohm, https://www.bourns.com/data/global/pdfs/TBU-CA.pdf; ki_keywords: high speed bidirectional protection; ki_fp_filters: *Bourns*TBU?CA*; Footprint: Fuse:Fuse_Bourns_TBU-CA; Datasheet: https://www.bourns.com/data/global/pdfs/TBU-CA.pdf; Description_: low capacitance single bidirectional high-speed protection, 850V 50mA 21.4ohm, https://www.bourns.com/data/global/pdfs/TBU-CA.pdf
pins: 1, 2, 3

## TBU-CA-085-100-WH
designator *  value TBU-CA-085-100-WH  Reference: F
low capacitance single bidirectional high-speed protection, 850V 100mA 15.2ohm, https://www.bourns.com/data/global/pdfs/TBU-CA.pdf; ki_keywords: high speed bidirectional protection; ki_fp_filters: *Bourns*TBU?CA*; Footprint: Fuse:Fuse_Bourns_TBU-CA; Datasheet: https://www.bourns.com/data/global/pdfs/TBU-CA.pdf; Description_: low capacitance single bidirectional high-speed protection, 850V 100mA 15.2ohm, https://www.bourns.com/data/global/pdfs/TBU-CA.pdf
pins: 1, 2, 3

## TBU-CA-085-200-WH
designator *  value TBU-CA-085-200-WH  Reference: F
low capacitance single bidirectional high-speed protection, 850V 200mA 12.3ohm, https://www.bourns.com/data/global/pdfs/TBU-CA.pdf; ki_keywords: high speed bidirectional protection; ki_fp_filters: *Bourns*TBU?CA*; Footprint: Fuse:Fuse_Bourns_TBU-CA; Datasheet: https://www.bourns.com/data/global/pdfs/TBU-CA.pdf; Description_: low capacitance single bidirectional high-speed protection, 850V 200mA 12.3ohm, https://www.bourns.com/data/global/pdfs/TBU-CA.pdf
pins: 1, 2, 3

## TBU-CA-085-300-WH
designator *  value TBU-CA-085-300-WH  Reference: F
low capacitance single bidirectional high-speed protection, 850V 300mA 11.3ohm, https://www.bourns.com/data/global/pdfs/TBU-CA.pdf; ki_keywords: high speed bidirectional protection; ki_fp_filters: *Bourns*TBU?CA*; Footprint: Fuse:Fuse_Bourns_TBU-CA; Datasheet: https://www.bourns.com/data/global/pdfs/TBU-CA.pdf; Description_: low capacitance single bidirectional high-speed protection, 850V 300mA 11.3ohm, https://www.bourns.com/data/global/pdfs/TBU-CA.pdf
pins: 1, 2, 3

## TBU-CA-085-500-WH
designator *  value TBU-CA-085-500-WH  Reference: F
low capacitance single bidirectional high-speed protection, 850V 500mA 10.7ohm, https://www.bourns.com/data/global/pdfs/TBU-CA.pdf; ki_keywords: high speed bidirectional protection; ki_fp_filters: *Bourns*TBU?CA*; Footprint: Fuse:Fuse_Bourns_TBU-CA; Datasheet: https://www.bourns.com/data/global/pdfs/TBU-CA.pdf; Description_: low capacitance single bidirectional high-speed protection, 850V 500mA 10.7ohm, https://www.bourns.com/data/global/pdfs/TBU-CA.pdf
pins: 1, 2, 3